# EAGLE library part BALUN (library OSSI)
433 MHz Impedance Matched/Balun/LPF Integrated Component for T.I. CC110X, CC111X, CC113X and CC115X, CC110L, CC113L, CC115L and CC430 P/N 0433BM15A0001 www.johansontechnology.com
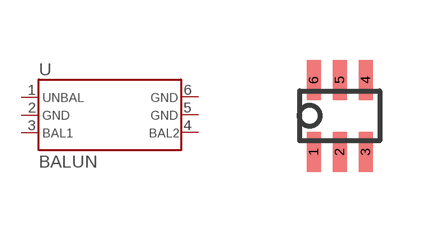
[diagram p1: symbol with the pads of 0433BM15A0001; footprint 0433BM15A0001]

Designator prefix U

## BALUN-433  [0433BM15A0001]
1  1  out
2  2  pwr
3  3  in
4  4  in
5  5  pwr
6  6  pwr

## Footprint 0433BM15A0001 (pad centres in mm)
smd 0.35 x 1: 1 -0.65,-0.9; 2 0,-0.9; 3 0.65,-0.9; 4 0.65,0.9; 5 0,0.9; 6 -0.65,0.9